# Altium footprint library 充放电.PcbLib: 23 footprints (part 2 of 2)
Each footprint in its own frame and in the unit in brackets; x right, y up, seen from the top. Pads: shape width x height; smd on the part's side, far side on the other; paste and mask are expansions set on the pad; w line width, h text height; cw(c..) or ccw(c..) is an arc to the next point about the centre after c.
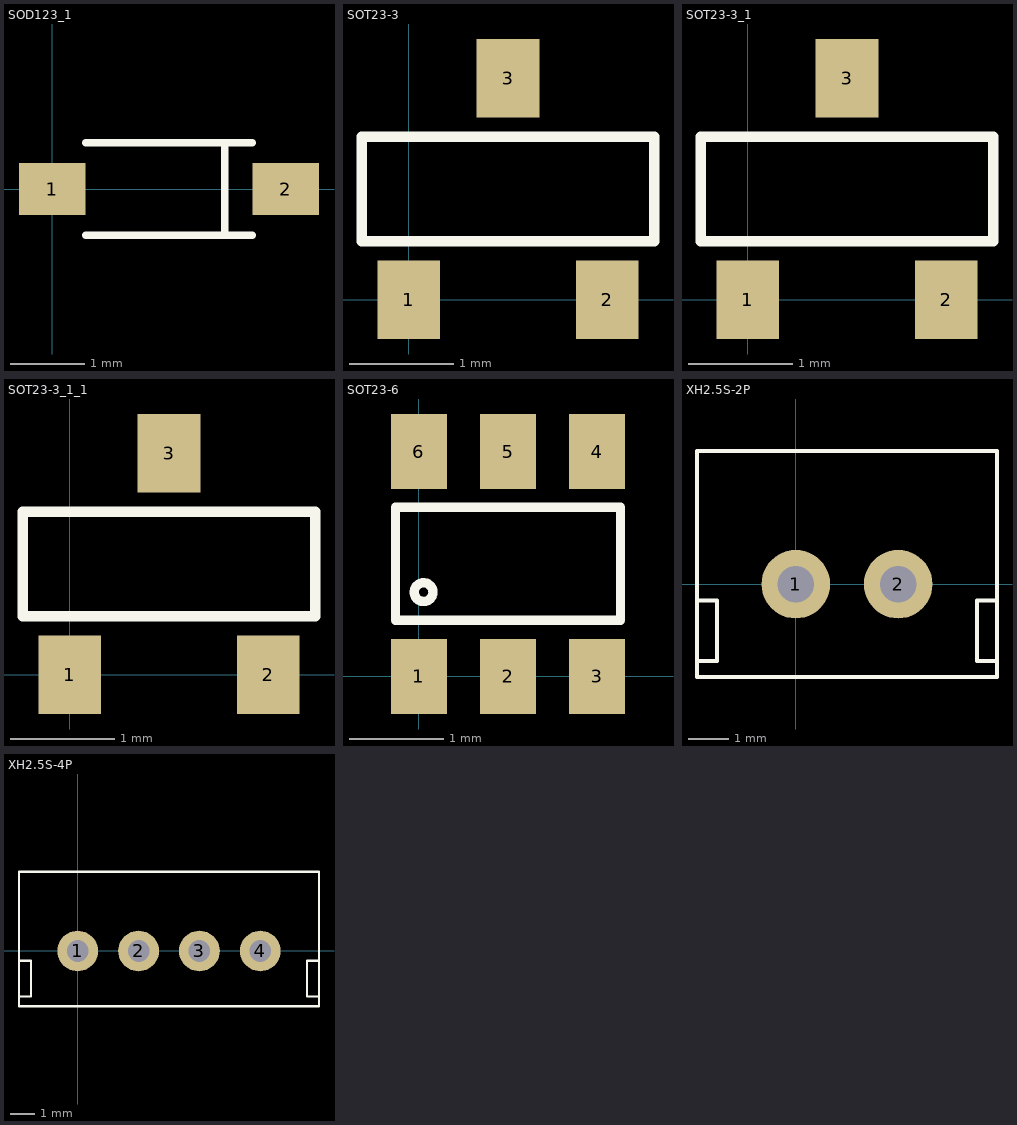
[diagram p1: the footprints below, top view; thin cyan lines are the x and y axes]

## SOD123_1 [mm]
pads (2):
  rect 0.9x0.7 smd: 1(0,0) 2(3.15,0)
Top Overlay:
  lines w0.1: 0.45,-0.625 2.7,-0.625 ; 0.45,0.625 2.7,0.625 ; 2.325,-0.625 2.325,0.625
3D body: height 0.3, standoff 0, extent 2.775,-0.25 3.475,0.25
3D body: height 1.31, standoff 1.3, extent 2.6,-0.8 2.8,0.8
3D body: height 0.3, standoff 0, extent -0.325,-0.25 0.375,0.25
3D body: height 1.3, standoff 0.2, extent 0.175,-0.8 2.975,0.8

## SOT23-3 [mm]
pads (3):
  rect 0.6x0.75 smd: 1(0,0) 2(1.9,0) 3(0.95,2.123)
Top Overlay:
  lines w0.1: -0.45,0.561 -0.45,1.561 2.35,1.561 2.35,0.561 -0.45,0.561
3D body: height 0.1, standoff 0, extent -0.2,-0.239 0.2,0.161
3D body: height 0.7, standoff 0, extent -0.2,0.161 0.2,0.261
3D body: height 0.7, standoff 0.6, extent -0.2,0.261 0.2,0.411
3D body: height 0.7, standoff 0, extent 1.7,0.161 2.1,0.261
3D body: height 0.1, standoff 0, extent 1.7,-0.239 2.1,0.161
3D body: height 0.7, standoff 0.6, extent 0.75,1.711 1.15,1.861
3D body: height 0.7, standoff 0, extent 0.75,1.861 1.15,1.961
3D body: height 0.1, standoff 0, extent 0.75,1.961 1.15,2.361
3D body: height 0.7, standoff 0.6, extent 1.7,0.261 2.1,0.411
3D body: height 1, standoff 0.1, extent -0.55,0.411 2.45,1.711

## SOT23-3_1 [mm]
pads (3):
  rect 0.6x0.75 smd: 1(0,0) 2(1.9,0) 3(0.95,2.123)
Top Overlay:
  lines w0.1: -0.45,0.561 -0.45,1.561 2.35,1.561 2.35,0.561 -0.45,0.561
3D body: height 0.1, standoff 0, extent -0.2,-0.239 0.2,0.161
3D body: height 0.7, standoff 0, extent -0.2,0.161 0.2,0.261
3D body: height 0.7, standoff 0.6, extent -0.2,0.261 0.2,0.411
3D body: height 0.7, standoff 0, extent 1.7,0.161 2.1,0.261
3D body: height 0.1, standoff 0, extent 1.7,-0.239 2.1,0.161
3D body: height 0.7, standoff 0.6, extent 0.75,1.711 1.15,1.861
3D body: height 0.7, standoff 0, extent 0.75,1.861 1.15,1.961
3D body: height 0.1, standoff 0, extent 0.75,1.961 1.15,2.361
3D body: height 0.7, standoff 0.6, extent 1.7,0.261 2.1,0.411
3D body: height 1, standoff 0.1, extent -0.55,0.411 2.45,1.711

## SOT23-3_1_1 [mm]
pads (3):
  rect 0.6x0.75 smd: 1(0,0) 2(1.9,0) 3(0.95,2.123)
Top Overlay:
  lines w0.1: -0.45,0.561 -0.45,1.561 2.35,1.561 2.35,0.561 -0.45,0.561
3D body: height 0.1, standoff 0, extent -0.2,-0.239 0.2,0.161
3D body: height 0.7, standoff 0, extent -0.2,0.161 0.2,0.261
3D body: height 0.7, standoff 0.6, extent -0.2,0.261 0.2,0.411
3D body: height 0.7, standoff 0, extent 1.7,0.161 2.1,0.261
3D body: height 0.1, standoff 0, extent 1.7,-0.239 2.1,0.161
3D body: height 0.7, standoff 0.6, extent 0.75,1.711 1.15,1.861
3D body: height 0.7, standoff 0, extent 0.75,1.861 1.15,1.961
3D body: height 0.1, standoff 0, extent 0.75,1.961 1.15,2.361
3D body: height 0.7, standoff 0.6, extent 1.7,0.261 2.1,0.411
3D body: height 1, standoff 0.1, extent -0.55,0.411 2.45,1.711

## SOT23-6 [mm]
pads (6):
  rect 0.6x0.8 smd: 1(0,0) 2(0.95,0) 3(1.9,0) 4(1.9,2.4) 5(0.95,2.4) 6(0,2.4)
Top Overlay:
  circle w0.1: c0.05,0.9 r0.1
  lines w0.1: -0.25,0.6 2.15,0.6 2.15,1.806 -0.25,1.806 -0.25,0.6
3D body: height 0.1, standoff 0, extent 1.65,2.3 2.15,2.7
3D body: height 0.7, standoff 0, extent 1.65,2.2 2.15,2.3
3D body: height 0.7, standoff 0.6, extent 1.65,2 2.15,2.2
3D body: height 0.1, standoff 0, extent 0.7,2.3 1.2,2.7
3D body: height 0.7, standoff 0, extent 0.7,2.2 1.2,2.3
3D body: height 0.7, standoff 0.6, extent 0.7,2 1.2,2.2
3D body: height 0.1, standoff 0, extent -0.25,2.3 0.25,2.7
3D body: height 0.7, standoff 0, extent -0.25,2.2 0.25,2.3
3D body: height 0.7, standoff 0.6, extent -0.25,2 0.25,2.2
3D body: height 0.1, standoff 0, extent 1.65,-0.3 2.15,0.1
3D body: height 0.7, standoff 0, extent 1.65,0.1 2.15,0.2
3D body: height 0.7, standoff 0.6, extent 1.65,0.2 2.15,0.4
3D body: height 0.1, standoff 0, extent -0.25,-0.3 0.25,0.1
3D body: height 0.7, standoff 0, extent -0.25,0.1 0.25,0.2
3D body: height 0.7, standoff 0.6, extent -0.25,0.2 0.25,0.4
3D body: height 0.7, standoff 0.6, extent 0.7,0.2 1.2,0.4
3D body: height 0.7, standoff 0, extent 0.7,0.1 1.2,0.2
3D body: height 0.1, standoff 0, extent 0.7,-0.3 1.2,0.1
3D body: height 1.01, standoff 1, extent -0.25,0.6 0.15,1
3D body: height 1, standoff 0.1, extent -0.55,0.4 2.45,2

## XH2.5S-2P [mm]
pads (2):
  round 1.7 hole 0.9: 1(0,0) 2(2.54,0)
Top Overlay:
  lines w0.1: -2.45,-1.9 -1.95,-1.9 -1.95,-0.4 -2.45,-0.4 ; 4.99,-1.9 4.49,-1.9 4.49,-0.4 4.99,-0.4 ; -2.45,-2.3 -2.45,3.3 4.99,3.3 4.99,-2.3 -2.45,-2.3
3D body: height 6, standoff -2, extent 2.14,-0.4 2.937,0.398
3D body: height 6, standoff -2, extent -0.4,-0.4 0.397,0.398
3D body: height 3, standoff 0, extent 0.025,-2.55 2.515,-1.85
3D body: height 1, standoff 0, extent -2.675,-2.55 5.215,3.55
3D body: height 3, standoff 0, extent -2.675,-1.85 -1.975,-0.45
3D body: height 7, standoff 0, extent -2.675,-2.55 0.025,-1.85
3D body: height 7, standoff 0, extent -2.675,2.85 5.215,3.55
3D body: height 7, standoff 0, extent -2.675,-0.45 -1.975,3.55
3D body: height 7, standoff 0, extent 4.515,-0.45 5.215,3.55
3D body: height 3, standoff 0, extent 4.515,-1.85 5.215,-0.45
3D body: height 7, standoff 0, extent 2.515,-2.55 5.215,-1.85

## XH2.5S-4P [mm]
pads (4):
  round 1.7 hole 0.9: 1(0,0) 2(2.54,0) 3(5.08,0) 4(7.62,0)
Top Overlay:
  lines w0.1: -2.45,-1.9 -1.95,-1.9 -1.95,-0.4 -2.45,-0.4 ; 10.07,-1.9 9.57,-1.9 9.57,-0.4 10.07,-0.4 ; -2.45,-2.3 -2.45,3.3 10.07,3.3 10.07,-2.3 -2.45,-2.3
3D body: height 6, standoff -2, extent 7.22,-0.4 8.017,0.398
3D body: height 6, standoff -2, extent 4.68,-0.4 5.477,0.398
3D body: height 6, standoff -2, extent 2.14,-0.4 2.937,0.398
3D body: height 6, standoff -2, extent -0.4,-0.4 0.397,0.398
3D body: height 7, standoff 0, extent -2.675,-0.45 -1.975,3.55
3D body: height 7, standoff 0, extent -2.675,2.85 10.295,3.55
3D body: height 7, standoff 0, extent -2.675,-2.55 1.885,-1.85
3D body: height 3, standoff 0, extent -2.675,-1.85 -1.975,-0.45
3D body: height 7, standoff 0, extent 9.595,-0.45 10.295,3.55
3D body: height 7, standoff 0, extent 5.735,-2.55 10.295,-1.85
3D body: height 3, standoff 0, extent 9.595,-1.85 10.295,-0.45
3D body: height 1, standoff 0, extent -2.675,-2.55 10.295,3.55
3D body: height 3, standoff 0, extent 1.885,-2.55 5.735,-1.85